# Altium footprint library SM05B-NSHSS-TB.PcbLib: 1 footprints
Each footprint in its own frame and in the unit in brackets; x right, y up, seen from the top. Pads: shape width x height; smd on the part's side, far side on the other; paste and mask are expansions set on the pad; w line width, h text height; cw(c..) or ccw(c..) is an arc to the next point about the centre after c.
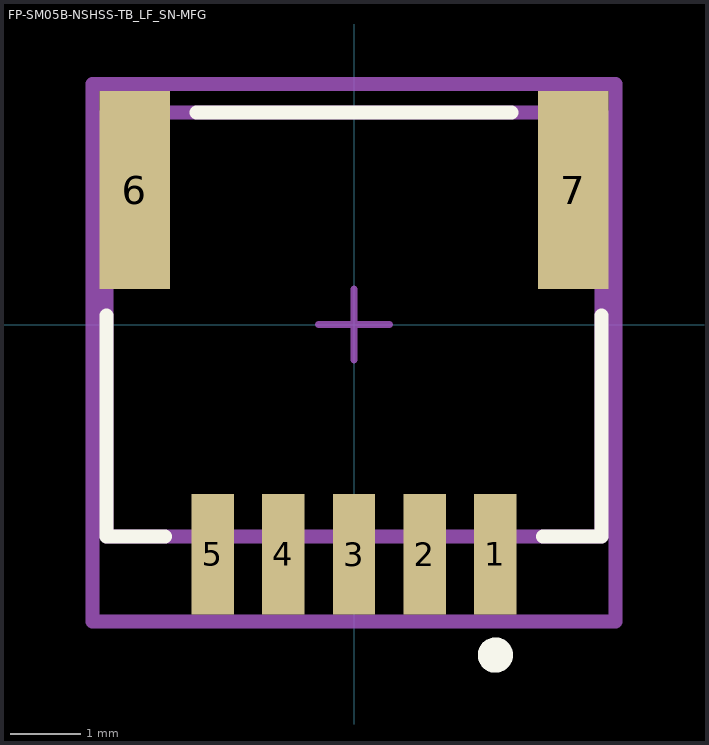
[diagram p0: the footprint, top view; thin cyan lines are the x and y axes]

## FP-SM05B-NSHSS-TB_LF_SN-MFG [mm]
pads (7):
  rect 0.6x1.7 smd paste+0 mask+0: 1(2,-3.25) 2(1,-3.25) 3(0,-3.25) 4(-1,-3.25) 5(-2,-3.25)
  rect 1x2.8 smd paste+0 mask+0: 6(-3.1,1.9) 7(3.1,1.9)
Top Overlay:
  circle w0.25: c2,-4.675 r0.125
  lines w0.2: -3.5,0.125 -3.5,-3 -2.675,-3 ; -2.225,3 2.225,3 ; 2.675,-3 3.5,-3 3.5,0.125
Top Assembly:
  lines w0.2: -3.7,-4.2 -3.7,3.4 3.7,3.4 3.7,-4.2 -3.7,-4.2
  text ".Designator" at 0,-0.212 h1
Top 3D Body:
  lines w0.2: -3.5,-3 -3.5,3 3.5,3 3.5,-3 -3.5,-3
Top Courtyard:
  lines w0.2: -3.7,-4.2 -3.7,3.4 3.7,3.4 3.7,-4.2 -3.7,-4.2
Top Component Center:
  lines w0.1: -0.5,0 0.5,0 ; 0,-0.5 0,0.5
3D body "Conn_JST_SM05B-NSHSS-TB_LF_SN_eec.STEP": height 0.25, standoff 0, extent -3.7,-4.2 3.7,3.4